# EAGLE library part SI4435BDY (library MAX9812)
Vishay Siliconix P-Channel 30-V (D-S) MOSFET FEATURES: TrenchFET Power MOSFET Advanced High Cell Density Process Lead Free APPLICATIONS: Load Switches Battery Switches Please send any comments to: messi@users.sourceforge.net
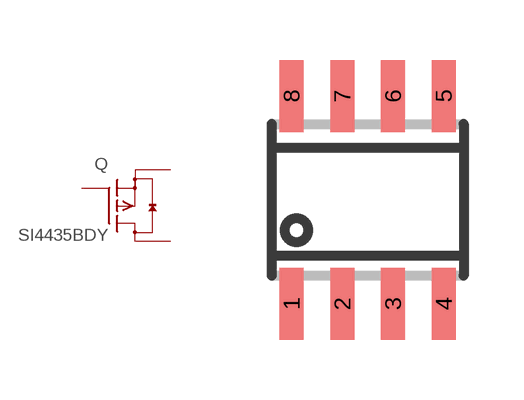
[diagram p68: symbol with the pads of SOIC8; footprint SOIC8]

Designator prefix Q

## SI4435BDY  [SOIC8]
1  S  pas
2  S  pas
3  S  pas
4  G  pas
5  D  pas
6  D  pas
7  D  pas
8  D  pas

## Footprint SOIC8 (pad centres in mm)
Small Outline IC
smd 0.6 x 1.8: 1 -1.905,-2.6; 2 -0.635,-2.6; 3 0.635,-2.6; 4 1.905,-2.6; 5 1.905,2.6; 6 0.635,2.6; 7 -0.635,2.6; 8 -1.905,2.6